# Altium footprint library 502570-0893.PcbLib: 1 footprints
Each footprint in its own frame and in the unit in brackets; x right, y up, seen from the top. Pads: shape width x height; smd on the part's side, far side on the other; paste and mask are expansions set on the pad; w line width, h text height; cw(c..) or ccw(c..) is an arc to the next point about the centre after c.
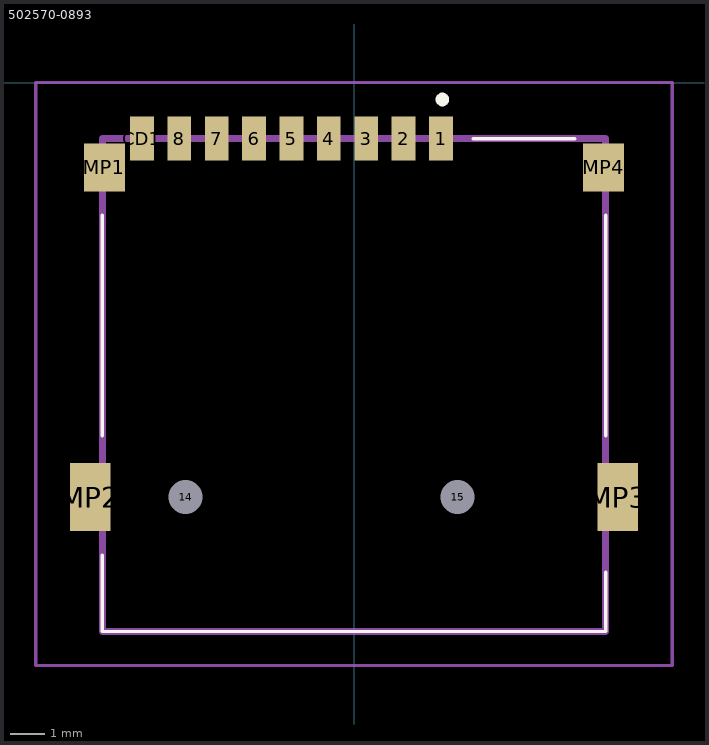
[diagram p0: the footprint, top view; thin cyan lines are the x and y axes]

## 502570-0893 [mm]
pads (15):
  rect 0.7x1.3 smd: 1(2.56,-1.64) 2(1.46,-1.64) 3(0.36,-1.64) 4(-0.74,-1.64) 5(-1.84,-1.64) 6(-2.94,-1.64) 7(-4.04,-1.64) 8(-5.14,-1.64) CD1(-6.24,-1.64)
  round 0.5 hole 1 unplated: 14(-4.95,-12.19) 15(3.05,-12.19)
  rect 1.2x1.4 smd: MP1(-7.34,-2.49) MP4(7.34,-2.49)
  rect 1.2x2 smd: MP2(-7.76,-12.19) MP3(7.76,-12.19)
Top Overlay:
  lines w0.1: -7.4,-13.89 -7.4,-16.14 7.4,-16.14 7.4,-14.39 ; -7.4,-10.39 -7.4,-3.89 ; 3.5,-1.64 6.5,-1.64 ; 7.4,-10.39 7.4,-3.89
  lines w0.2: 2.6,-0.59 cw(c2.6,-0.49) 2.6,-0.39 cw(c2.6,-0.49) 2.6,-0.59
Mechanical 13:
  lines w0.2: -7.4,-16.14 -7.4,-1.64 7.4,-1.64 7.4,-16.14 -7.4,-16.14
Mechanical 15:
  lines w0.1: -9.36,-17.14 -9.36,0.01 9.36,0.01 9.36,-17.14 -9.36,-17.14
3D body "TF-01A.stp": height 2.05, standoff -0.35, extent -8.804,-16.813 9.017,-0.713